# Altium footprint library sim900.PcbLib: 1 footprints
Each footprint in its own frame and in the unit in brackets; x right, y up, seen from the top. Pads: shape width x height; smd on the part's side, far side on the other; paste and mask are expansions set on the pad; w line width, h text height; cw(c..) or ccw(c..) is an arc to the next point about the centre after c.
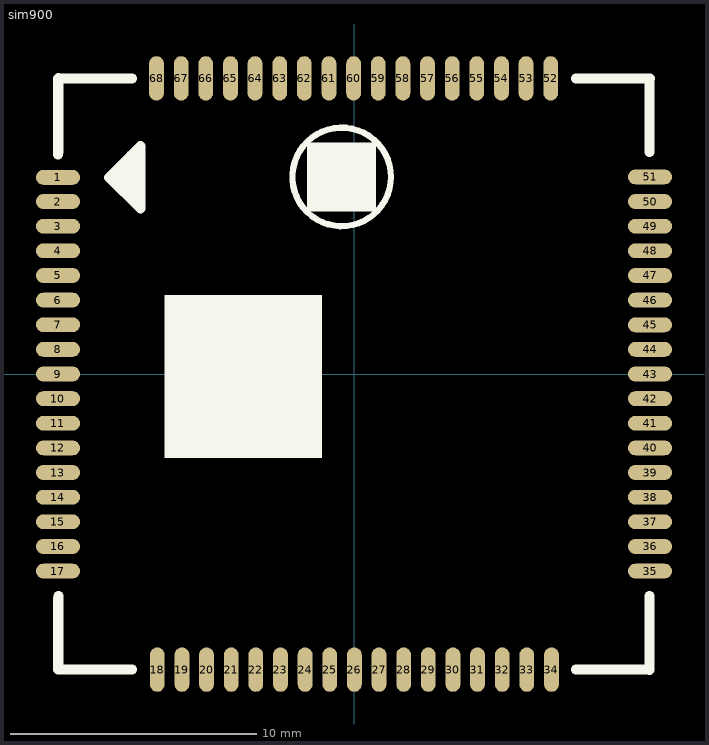
[diagram p0: the footprint, top view; thin cyan lines are the x and y axes]

## sim900 [mm]
pads (68):
  oval 1.8x0.6 smd mask+0.102: 1(-12.016,7.981) 2(-12.016,7) 3(-12.016,6) 4(-12.016,5) 5(-12.016,4) 6(-12.016,3) 7(-12.016,2) 8(-12.016,1) 9(-12.016,0) 10(-12.016,-1) 11(-12.016,-2) 12(-12.016,-3) 13(-12.016,-4) 14(-12.016,-5) 15(-12.016,-6) 16(-12.016,-7) 17(-12.016,-8) 35(12.016,-8) 36(12.016,-7) 37(12.016,-6) 38(12.016,-5) 39(12.016,-4) 40(12.016,-3) 41(12.016,-2) 42(12.016,-1) 43(12.016,0) 44(12.016,1) 45(12.016,1.994) 46(12.016,3) 47(12.016,4) 48(12.016,5) 49(12.016,6) 50(12.016,7) 51(12.016,8)
  oval 0.6x1.8 smd mask+0.102: 18(-7.985,-12) 19(-6.984,-12) 20(-5.985,-12) 21(-4.985,-12) 22(-3.985,-12) 23(-2.984,-12) 24(-1.984,-12) 25(-0.985,-12) 26(0.015,-12) 27(1.015,-12) 28(2.016,-12) 29(3.015,-12) 30(4.015,-12) 31(5.01,-12) 32(6.015,-12) 33(7.016,-12) 34(8.016,-12) 52(7.984,12) 53(6.984,12) 54(5.984,12) 55(4.984,12) 56(3.984,12) 57(2.984,12) 58(1.984,12) 59(0.984,12) 60(-0.016,12) 61(-1.016,12) 62(-2.016,12) 63(-3.016,12) 64(-4.016,12) 65(-5.016,12) 66(-6.016,12) 67(-7.016,12) 68(-8.016,12)
Top Layer:
  lines w0.4: 12,-0.984 12.016,-1
Top Overlay:
  circle w0.254: c-0.5,8 r2
  rectangle: -1.9,6.6 0.9,9.4
  rectangle: -7.7,-3.4 -1.3,3.2
  lines w0.4: -12.016,-9.1 -12.016,-12 -9,-12 ; -12.016,8.9 -12.016,12 -9,12 -11.984,12 ; -12,-11.984 -12,-9 ; -12,9 -12,12.016 ; -9.433,7.474 -9.433,8.44 ; -9.046,7.099 -9.046,8.877 ; -8.671,7.982 -9.941,7.982 ; 9,-12 11.984,-12 11.984,-9.1 ; 11.966,12 9,12 12.016,12 ; 11.984,9.1 11.984,12 ; 12,-12.015 12,-9 ; 12,9 12,11.985 ; -9.941,7.982 -8.671,9.252 -8.671,6.712 -9.941,7.982 ; -7.285,-2.8 -7.285,2.8 -1.685,2.8 -1.685,-2.8 -7.285,-2.8